# EAGLE library part IV-27_R (library IV-27_R_CNC)
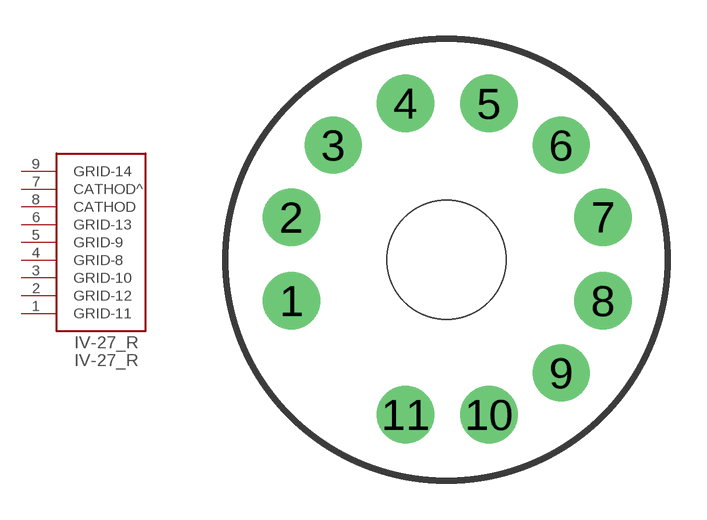
[diagram p0: symbol with the pads of IV-27_R; footprint IV-27_R]

Designator prefix IV-27_R

## IV-27_R  [IV-27_R]
1  GRID-11
2  GRID-12
3  GRID-10
4  GRID-8
5  GRID-9
6  GRID-13
7  CATHOD^
8  CATHOD
9  GRID-14

## Footprint IV-27_R (pad centres in mm)
drill 1.468: 1 -5.962,-1.577; 2 -5.962,1.633; 3 -4.358,4.412; 4 -1.578,6.017; 5 1.631,6.017; 6 4.411,4.412; 7 6.015,1.633; 8 6.015,-1.577; 9 4.411,-4.356; 10 1.631,-5.961; 11 -1.578,-5.961
hole 4.572 at 0,0